# Altium footprint library WE-PD2_5848.PcbLib: 1 footprints
Each footprint in its own frame and in the unit in brackets; x right, y up, seen from the top. Pads: shape width x height; smd on the part's side, far side on the other; paste and mask are expansions set on the pad; w line width, h text height; cw(c..) or ccw(c..) is an arc to the next point about the centre after c.
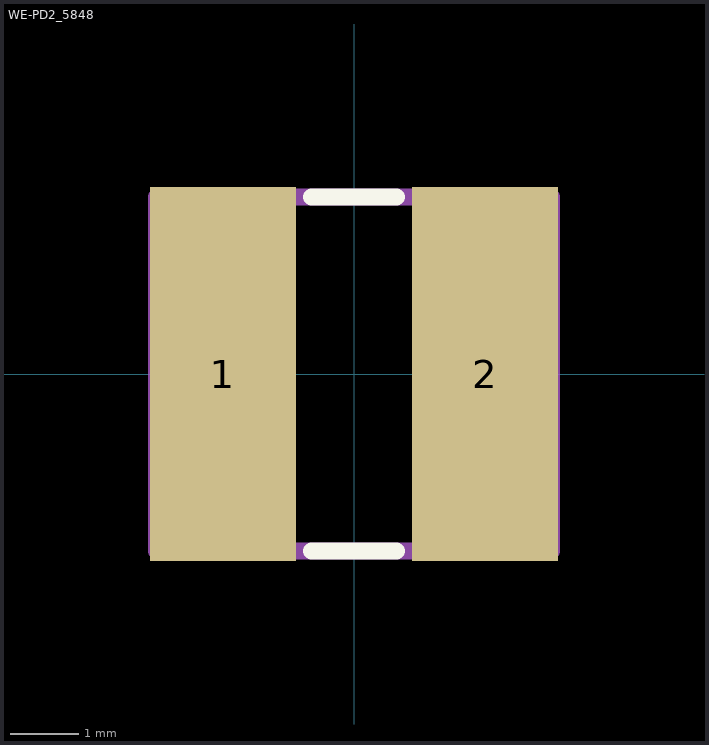
[diagram p0: the footprint, top view; thin cyan lines are the x and y axes]

## WE-PD2_5848 [mm] "SMD Power Inductor, size 5848, body 5.8x5.2mm"
height 4.5
pads (2):
  rect 2.15x5.5 smd: 1(-1.925,0) 2(1.925,0)
Top Overlay:
  lines w0.254: -0.62,-2.6 0.62,-2.6 ; -0.62,2.6 0.62,2.6
Mechanical 13:
  lines w0.254: -2.9,-2.6 2.9,-2.6 2.9,2.6 -2.9,2.6 -2.9,-2.6
3D body "IndPD2_5848_744774xx.stp": height 4.52, standoff 0.02, extent -2.898,-2.6 2.889,2.6